# EAGLE library part MAX4080 (library common)
High-side current-sense amplifier. 4.5V to 76V.
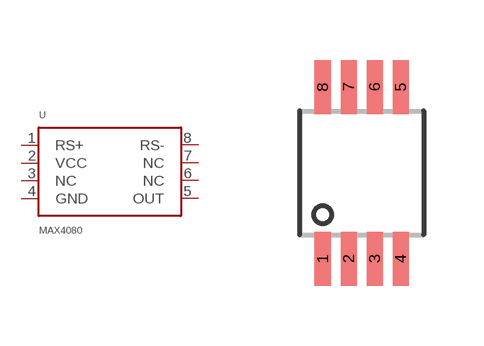
[diagram p29: symbol with the pads of UMAX; footprint UMAX]

Designator prefix U

## MAX4080  [UMAX]
1  RS+
2  VCC
3  NC
4  GND
5  OUT
6  NC
7  NC
8  RS-

## Footprint UMAX (pad centres in mm)
smd 0.4 x 1.35: 1 -0.975,-2.15; 2 -0.325,-2.15; 3 0.325,-2.15; 4 0.975,-2.15; 5 0.975,2.15; 6 0.325,2.15; 7 -0.325,2.15; 8 -0.975,2.15